# EAGLE library part M25P16 (library crasbe)
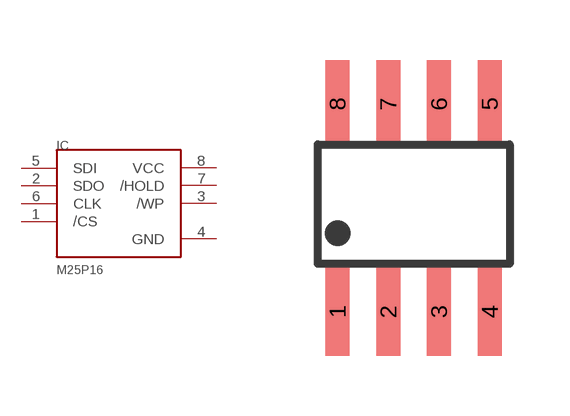
[diagram p26: symbol with the pads of SO-8; footprint SO-8]

Designator prefix IC

## M25P16  [SO-8]
1  /CS
2  SDO  out
3  /WP
4  GND
5  SDI  in
6  CLK  in
7  /HOLD
8  VCC

## Footprint SO-8 (pad centres in mm)
smd 0.6 x 2.2: 1 -1.905,-2.6; 2 -0.635,-2.6; 3 0.635,-2.6; 4 1.905,-2.6; 5 1.905,2.6; 6 0.635,2.6; 7 -0.635,2.6; 8 -1.905,2.6